# Altium schematic symbol library HeadersPin_1rows_F_90.SchLib: 10 symbols
Pins are listed as number, name and electrical type; pins without a type are passive.

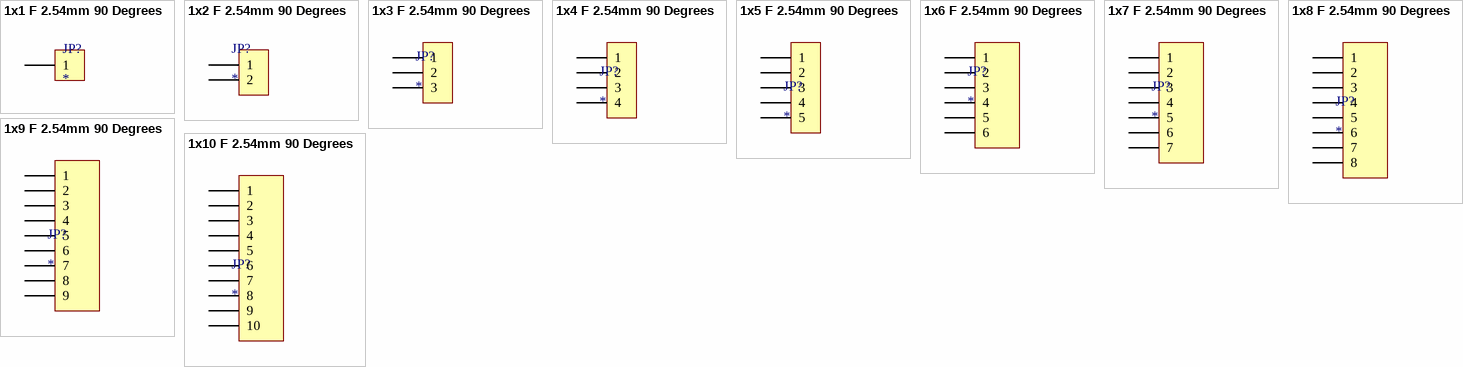
[diagram p0: symbols 1x1 F 2.54mm 90 Degrees to 1x10 F 2.54mm 90 Degrees]

## 1x1 F 2.54mm 90 Degrees
designator JP?
Designed by: ILKNUR
footprint 1X1 (F) 2.54MM 90 DEGRES
pins: 1

## 1x2 F 2.54mm 90 Degrees
designator JP?
Designed by: ILKNUR
footprint 1x2 (F) 2.54MM 90 DEGRES
pins: 1, 2

## 1x3 F 2.54mm 90 Degrees
designator JP?
Designed by: ILKNUR
footprint 1x3 (F) 2.54mm 90 Degres
pins: 1, 2, 3

## 1x4 F 2.54mm 90 Degrees
designator JP?
4 Position Total Single Row 2.54 mm Pitch Right Angle Female Header; Manufacturer: Sullins; Manufacturer Part Number: PPTC041LGBN-RC; Designed by: ILKNUR; Supplier 1: Digikey; RoHS: Yes; Category: Connectors; Stock 1: 18753; Pricing 1: 1=0,56, 10=0,49, 100=0,4039, 500=0,35126, 1000=0,28979, 5000=0,25466, 10000=0,2509 (USD); ComponentLink1URL: https://media.digikey.com/pdf/Data%20Sheets/Sullins%20PDFs/Female_Headers.100_DS.pdf?src-supplier=Digikey; ComponentLink1Description: https://media.digikey.com/pdf/Data%20Sheets/Sullins%20PDFs/Female_Headers.100_DS.pdf?src-supplier=Digikey; ComponentLink2URL: https://datasheet.octopart.com/PPTC041LGBN-RC-Sullins-datasheet-41308905.pdf?src-supplier=Future+Electronics; ComponentLink2Description: https://datasheet.octopart.com/PPTC041LGBN-RC-Sullins-datasheet-41308905.pdf?src-supplier=Future+Electronics; ComponentLink3URL: http://www.sullinscorp.com/catalogs/78_Page80-81_HEADER_.100_2.54mm_FEMALE.pdf?src-supplier=Future+Electronics; ComponentLink3Description: http://www.sullinscorp.com/catalogs/78_Page80-81_HEADER_.100_2.54mm_FEMALE.pdf?src-supplier=Future+Electronics; Supplier Part Number 1: S5440-ND
footprint 1X4 (F) 2.54mm 90 Degres
pins: 1, 2, 3, 4

## 1x5 F 2.54mm 90 Degrees
designator JP?
Designed by: ILKNUR
footprint 1X5 (F) 2.54MM 90 DEGRES
pins: 1, 2, 3, 4, 5

## 1x6 F 2.54mm 90 Degrees
designator JP?
Designed by: ILKNUR
footprint 1X6 (F) 2.54MM 90 DEGRES
pins: 1, 2, 3, 4, 5, 6

## 1x7 F 2.54mm 90 Degrees
designator JP?
Designed by: ILKNUR
footprint 1X7 (F) 2.54MM 90 DEGRES
pins: 1, 2, 3, 4, 5, 6, 7

## 1x8 F 2.54mm 90 Degrees
designator JP?
Designed by: ILKNUR
footprint 1X8 (F) 2.54MM 90 DEGRES
pins: 1, 2, 3, 4, 5, 6, 7, 8

## 1x9 F 2.54mm 90 Degrees
designator JP?
Designed by: ILKNUR
footprint 1X9 (F) 2.54MM 90 DEGRES
pins: 1, 2, 3, 4, 5, 6, 7, 8, 9

## 1x10 F 2.54mm 90 Degrees
designator JP?
Designed by: ILKNUR
footprint 1X10 (F) 2.54MM 90 DEGRES
pins: 1, 2, 3, 4, 5, 6, 7, 8, 9, 10